# EAGLE library part 79107-48_S (library untitled)
RECEPTACAL
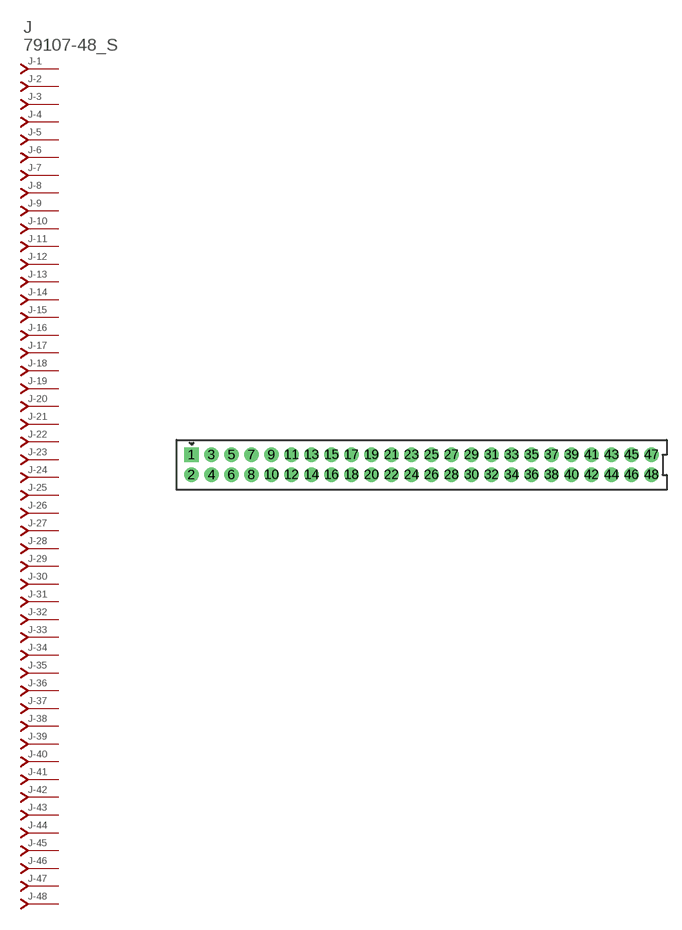
[diagram p237: symbol with the pads of 79107-48; footprint 79107-48]

Designator prefix J; gates -1=J-NV -2=J-N -3=J-N -4=J-N -5=J-N -6=J-N -7=J-N -8=J-N -9=J-N -10=J-N -11=J-N -12=J-N -13=J-N -14=J-N -15=J-N -16=J-N -17=J-N -18=J-N -19=J-N -20=J-N -21=J-N -22=J-N -23=J-N -24=J-N -25=J-N -26=J-N -27=J-N -28=J-N -29=J-N -30=J-N -31=J-N -32=J-N -33=J-N -34=J-N -35=J-N -36=J-N -37=J-N -38=J-N -39=J-N -40=J-N -41=J-N -42=J-N -43=J-N -44=J-N -45=J-N -46=J-N -47=J-N -48=J-N

## 79107-48_S  [79107-48]
1  -1:J  pas
2  -2:J  pas
3  -3:J  pas
4  -4:J  pas
5  -5:J  pas
6  -6:J  pas
7  -7:J  pas
8  -8:J  pas
9  -9:J  pas
10  -10:J  pas
11  -11:J  pas
12  -12:J  pas
13  -13:J  pas
14  -14:J  pas
15  -15:J  pas
16  -16:J  pas
17  -17:J  pas
18  -18:J  pas
19  -19:J  pas
20  -20:J  pas
21  -21:J  pas
22  -22:J  pas
23  -23:J  pas
24  -24:J  pas
25  -25:J  pas
26  -26:J  pas
27  -27:J  pas
28  -28:J  pas
29  -29:J  pas
30  -30:J  pas
31  -31:J  pas
32  -32:J  pas
33  -33:J  pas
34  -34:J  pas
35  -35:J  pas
36  -36:J  pas
37  -37:J  pas
38  -38:J  pas
39  -39:J  pas
40  -40:J  pas
41  -41:J  pas
42  -42:J  pas
43  -43:J  pas
44  -44:J  pas
45  -45:J  pas
46  -46:J  pas
47  -47:J  pas
48  -48:J  pas

## Footprint 79107-48 (pad centres in mm)
RECEPTACAL Dual Row, Vertical, Through-Hole
drill 0.914 square: 1 -23,1
drill 0.914 round: 2 -23,-1; 3 -21,1; 4 -21,-1; 5 -19,1; 6 -19,-1; 7 -17,1; 8 -17,-1; 9 -15,1; 10 -15,-1; 11 -13,1; 12 -13,-1; 13 -11,1; 14 -11,-1; 15 -9,1; 16 -9,-1; 17 -7,1; 18 -7,-1; 19 -5,1; 20 -5,-1; 21 -3,1; 22 -3,-1; 23 -1,1; 24 -1,-1; 25 1,1; 26 1,-1; 27 3,1; 28 3,-1; 29 5,1; 30 5,-1; 31 7,1; 32 7,-1; 33 9,1; 34 9,-1; 35 11,1; 36 11,-1; 37 13,1; 38 13,-1; 39 15,1; 40 15,-1; 41 17,1; 42 17,-1; 43 19,1; 44 19,-1; 45 21,1; 46 21,-1; 47 23,1; 48 23,-1